# EAGLE library part PA6H (library SobieskiSat2)
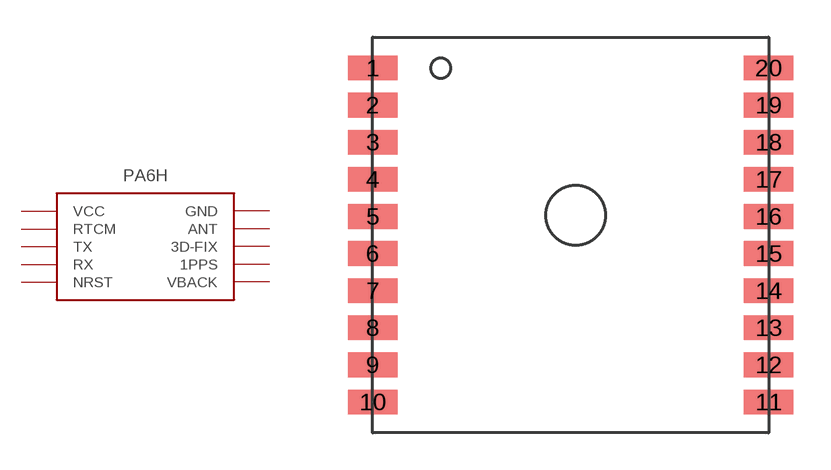
[diagram p6: symbol with the pads of PA6H; footprint PA6H]

Designator prefix -

## PA6H_  [PA6H]
1  VCC
2  NRST
3  GND
4  VBACK
5  3D-FIX
8  GND
9  TX
10  RX
12  GND
17  RTCM
18  1PPS
19  GND
20  ANT

## Footprint PA6H (pad centres in mm)
smd 2 x 1: 1 -8,6.75; 2 -8,5.25; 3 -8,3.75; 4 -8,2.25; 5 -8,0.75; 6 -8,-0.75; 7 -8,-2.25; 8 -8,-3.75; 9 -8,-5.25; 10 -8,-6.75; 11 8,-6.75; 12 8,-5.25; 13 8,-3.75; 14 8,-2.25; 15 8,-0.75; 16 8,0.75; 17 8,2.25; 18 8,3.75; 19 8,5.25; 20 8,6.75
hole 2.4 at 0.2,0.8